# Altium integrated library AnalogDigital-Switches.IntLib: 5 symbols
Pins are listed as number, name and electrical type; pins without a type are passive.

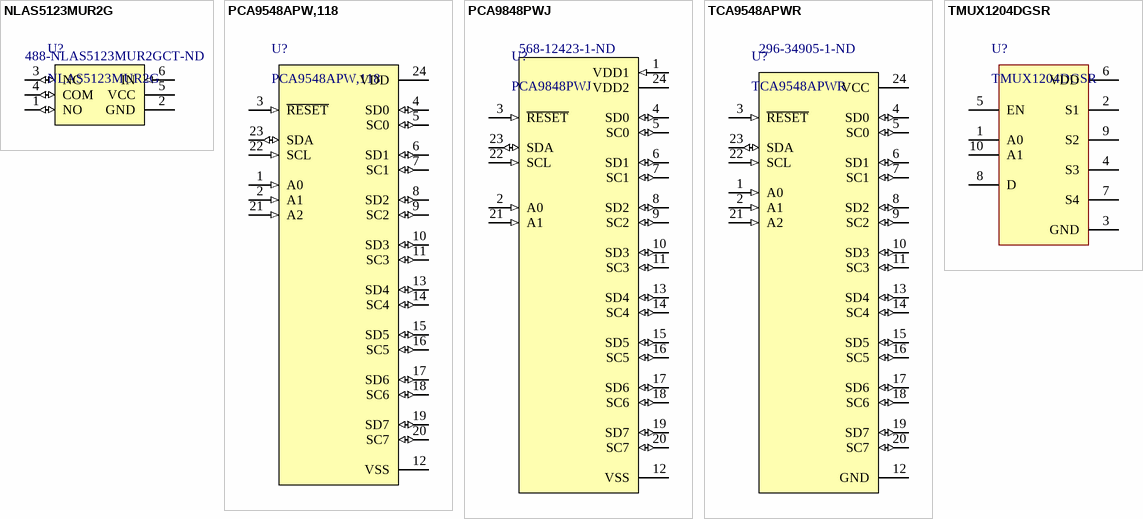
[diagram p0: symbols NLAS5123MUR2G to TMUX1204DGSR]

## NLAS5123MUR2G
designator U?  Supplier Part Number 1: 488-NLAS5123MUR2GCT-ND
NLAS5123MUR2G; Analogue Switch Single SPDT; 1.65 - 5.5 V; 6-Pin UDFN; Manufacturer: ON Semiconductor; Min Supply Voltage: 1.65V; Max Supply Voltage: 5.5V; Number of Inputs: 1; Number of Outputs: 2; On-State Resistance: 1R; Operating Supply Current: 500nA; Turn-On Delay Time: 20ns; Turn-Off Delay Time: 15ns; Supplier 1: Digi-Key; Manufacturer Part Number: NLAS5123MUR2G; RoHS: Yes; Category: Decoders and Multiplexers; Stock 1: 5956; Pricing 1: 1=1,40000, 10=1,25100, 25=1,18720, 100=0,97520, 250=0,91160, 500=0,80560, 1000=0,63600 (USD); Number of Pins: 6; Min Operating Temperature: -40°C; Max Operating Temperature: 85°C; Package Quantity: 1; Number of Channels: 1; Packaging: Tape and Reel; Max Supply Current: 500nA; Throw Configuration: SPDT; Supply Type: Single; Nominal Supply Current: 500nA; Series: -; Supply Current: 500nA; Length: 1.2mm; Width: 1mm; Height: 0.5mm; Radiation Hardening: No; Lead Free: Lead Free; Halogen Free: Halogen Free; RoHS Compliant: Yes; ComponentLink1URL: https://datasheet.ciiva.com/1682/nlas5123-d-1682371.pdf?src-supplier=Digi-Key; ComponentLink1Description: https://datasheet.ciiva.com/1682/nlas5123-d-1682371.pdf?src-supplier=Digi-Key; ComponentLink2URL: https://datasheet.ciiva.com/1682/nlas5123-d-1682372.pdf?src-supplier=Digi-Key; ComponentLink2Description: https://datasheet.ciiva.com/1682/nlas5123-d-1682372.pdf?src-supplier=Digi-Key
footprint SON40P100X80-6M (SON, 6-Leads, Body 1,20x1,00mm, Pitch 0,40mm, IPC Low Density)
pins: 1 NO (io), 2 GND (power), 3 NC (io), 4 COM (io), 5 VCC (power), 6 IN (in)

## PCA9548APW,118
designator U?
Multiplexer Switch ICs 8-CH I2C SWITCH W/RESET; Manufacturer: NXP; Manufacturer Part Number: PCA9548APW,118; ComponentLink1Description: Digikey; ComponentLink1URL: https://www.digikey.com/en/products/detail/nxp-usa-inc/PCA9548APW-118/1157063; LCSC: C21198
footprint TSOP65P640X110-24N (TSOP, 24-Leads, Body 7,80x4,40mm, Pitch 0,65mm, IPC Medium Density)
pins: 1 A0 (in), 2 A1 (in), 3 ~{RESET} (in), 4 SD0 (io), 5 SC0 (io), 6 SD1 (io), 7 SC1 (io), 8 SD2 (io), 9 SC2 (io), 10 SD3 (io), 11 SC3 (io), 12 VSS (power), 13 SD4 (io), 14 SC4 (io), 15 SD5 (io), 16 SC5 (io), 17 SD6 (io), 18 SC6 (io), 19 SD7 (io), 20 SC7 (io), 21 A2 (in), 22 SCL (in), 23 SDA (io), 24 VDD (power)

## PCA9848PWJ
designator U?  Supplier Part Number 1: 568-12423-1-ND
I2C Bus Switch 1-Element 1-IN Automotive 24-Pin TSSOP T/R; Manufacturer: NXP Semiconductors; Number of Circuits: 2; On-State Resistance: 24R; Supply Type: Dual; Independent Circuits: 1; Supplier 1: Digi-Key; Manufacturer Part Number: PCA9848PWJ; RoHS: Yes; Category: Integrated Circuits (ICs); Stock 1: 1133; Pricing 1: 1=3,01000, 10=2,76700 (USD); Mount: Surface Mount; Case/Package: TSSOP; Number of Pins: 24; Min Operating Temperature: -40°C; Max Operating Temperature: 85°C; Packaging: Cut Tape; REACH SVHC: No SVHC; RoHS Compliant: Yes; ComponentLink1URL: http://www.mouser.com/ds/2/302/PCA9848-1127670.pdf?src-supplier=Mouser; ComponentLink1Description: http://www.mouser.com/ds/2/302/PCA9848-1127670.pdf?src-supplier=Mouser; ComponentLink2URL: http://www.nxp.com/documents/data_sheet/PCA9848.pdf?src-supplier=Avnet; ComponentLink2Description: http://www.nxp.com/documents/data_sheet/PCA9848.pdf?src-supplier=Avnet; ComponentLink3URL: http://www.farnell.com/datasheets/2057141.pdf?src-supplier=Element14; ComponentLink3Description: http://www.farnell.com/datasheets/2057141.pdf?src-supplier=Element14
footprint SOP65P640X120-24N (IC I2C BUS SWITCH 1 X 8:1 24TSSOP)
pins: 1 VDD1 (in), 2 A0 (in), 3 ~{RESET} (in), 4 SD0 (io), 5 SC0 (io), 6 SD1 (io), 7 SC1 (io), 8 SD2 (io), 9 SC2 (io), 10 SD3 (io), 11 SC3 (io), 12 VSS (power), 13 SD4 (io), 14 SC4 (io), 15 SD5 (io), 16 SC5 (io), 17 SD6 (io), 18 SC6 (io), 19 SD7 (io), 20 SC7 (io), 21 A1 (in), 22 SCL (in), 23 SDA (io), 24 VDD2 (power)

## TCA9548APWR
designator U?  Supplier Part Number 1: 296-34905-1-ND
IC I2C SW 8CH W/RESET 24TSSOP; Manufacturer: Texas Instruments; Max Supply Voltage: 5.5V; Min Supply Voltage: 1.65V; On-State Resistance: 70R; Max Supply Current: 80uA; Supply Type: Single; Independent Circuits: 1; Supplier 1: Digi-Key; Manufacturer Part Number: TCA9548APWR; RoHS: Yes; Category: Decoders and Multiplexers; Pricing 1: 1=2,09000, 10=1,87600, 25=1,77040, 100=1,50820, 250=1,41616, 500=1,23914, 1000=1,16900 (USD); Mount: Surface Mount; Case/Package: TSSOP; Number of Pins: 24; Contact Plating: Gold; Min Operating Temperature: -40°C; Max Operating Temperature: 85°C; Packaging: Tape and Reel; Package Quantity: 1; Series: TCA; REACH SVHC: No SVHC; Lead Free: Lead Free; RoHS Compliant: Yes; ComponentLink1URL: https://datasheet.ciiva.com/6614/tca9548a-6614721.pdf?src-supplier=Digi-Key; ComponentLink1Description: https://datasheet.ciiva.com/6614/tca9548a-6614721.pdf?src-supplier=Digi-Key
footprint SOP65P640X120-24N (IC I2C BUS SWITCH 1 X 8:1 24TSSOP)
pins: 1 A0 (in), 2 A1 (in), 3 ~{RESET} (in), 4 SD0 (io), 5 SC0 (io), 6 SD1 (io), 7 SC1 (io), 8 SD2 (io), 9 SC2 (io), 10 SD3 (io), 11 SC3 (io), 12 GND (power), 13 SD4 (io), 14 SC4 (io), 15 SD5 (io), 16 SC5 (io), 17 SD6 (io), 18 SC6 (io), 19 SD7 (io), 20 SC7 (io), 21 A2 (in), 22 SCL (in), 23 SDA (io), 24 VCC (power)

## TMUX1204DGSR
designator U?
5-V, 4: 1, 1-channel, general-purpose analog multiplexer 10-VSSOP -40 to 125; Manufacturer: Texas Instruments; Manufacturer Lifecycle Status: ACTIVE; -3db Bandwidth: 125MHz; Max Junction Temperature (Tj): 150°C; Max Supply Voltage: 5.5V; Min Supply Voltage: 1.08V; Nominal Supply Current: 10nA; Number of Channels: 1; On-State Resistance: 5Ω; Value: 9Ω; Throw Configuration: SP4T; Supplier: DigiKey; Supplier Part Number: 296-TMUX1204DGSRCT-ND; Manufacturer Part Number: TMUX1204DGSR; RoHS: Compliant; Category: Decoders and Multiplexers; Stock: 17487; Pricing: 1=0,58, 10=0,41, 25=0,3672, 100=0,3199, 250=0,29744, 500=0,28386, 1000=0,27693 (USD); Ambient Temperature Range High: 125°C; Case/Package: VSSOP; Height: 1.07mm; Length: 3mm; Lifecycle Status: Production; Max Operating Temperature: 125°C; Min Operating Temperature: -40°C; Number of Circuits: 1; Pins: 10; Schedule B: 8542390000, 8542390000|8542390000|8542390000|8542390000|8542390000; Thickness: 1.02mm; Width: 3mm; ComponentLink1URL: https://octopart.com:443/opatz8j6/c1?t=LX23DACd-woayY2gHawiHY8__5oLhi9sv1L9125XOUkJaHJtEsbF39RTHFwH2IyMRhxqUhwVD2u85DX7cofBFpvXiH7rJRXgMthk5NTFPavk2vYCZkdthBTzGq03x-pCKubUd29dneCqkLcfBUa5jEZOzrydTGGueV3Fk6xKsw9bxXVvapnowabhPWUvr7uiRN22UmzhBwAryUUtOJ7khbiNBzZH9l9m8bvEpLJm-dymuj5Bbp9V26gT0_Z1kSqRtIHcnLqOStf5Bi-Yx2iiBK5PeC9pQ_aUhILVYXn8ELLApNIetG5TbG0qpt2aQu5tpllJt7nX1lf7WCQliPUANWdfeTV-kKXv3KpLxF7QKD7mHGbZrQ0ZeVcuGTY1VQfKdaV8wJC_rg&src-supplier=Texas+Instruments; ComponentLink1Description: https://octopart.com:443/opatz8j6/c1?t=LX23DACd-woayY2gHawiHY8__5oLhi9sv1L9125XOUkJaHJtEsbF39RTHFwH2IyMRhxqUhwVD2u85DX7cofBFpvXiH7rJRXgMthk5NTFPavk2vYCZkdthBTzGq03x-pCKubUd29dneCqkLcfBUa5jEZOzrydTGGueV3Fk6xKsw9bxXVvapnowabhPWUvr7uiRN22UmzhBwAryUUtOJ7khbiNBzZH9l9m8bvEpLJm-dymuj5Bbp9V26gT0_Z1kSqRtIHcnLqOStf5Bi-Yx2iiBK5PeC9pQ_aUhILVYXn8ELLApNIetG5TbG0qpt2aQu5tpllJt7nX1lf7WCQliPUANWdfeTV-kKXv3KpLxF7QKD7mHGbZrQ0ZeVcuGTY1VQfKdaV8wJC_rg&src-supplier=Texas+Instruments; ComponentLink2URL: https://datasheet.octopart.com:443/TMUX1204DGSR-Texas-Instruments-datasheet-165811999.pdf?src-supplier=SHENGYU+ELECTRONICS; ComponentLink2Description: https://datasheet.octopart.com:443/TMUX1204DGSR-Texas-Instruments-datasheet-165811999.pdf?src-supplier=SHENGYU+ELECTRONICS; ComponentLink3URL: http://sigma.octopart.com:80/reach_statement/Texas-Instruments-company-64.pdf?src-supplier=Compliance+Statements; ComponentLink3Description: http://sigma.octopart.com:80/reach_statement/Texas-Instruments-company-64.pdf?src-supplier=Compliance+Statements; ComponentLink4URL: http://sigma.octopart.com:80/conflict_mineral_statement/Texas-Instruments-company-63.pdf?src-supplier=Compliance+Statements; ComponentLink4Description: http://sigma.octopart.com:80/conflict_mineral_statement/Texas-Instruments-company-63.pdf?src-supplier=Compliance+Statements
footprint TSSOP50P490X110-10N (TSSOP, 10-Leads, Body 3,00x3,00mm, Pitch 0,50mm, IPC Medium Density)
pins: 1 A0, 2 S1, 3 GND, 4 S3, 5 EN, 6 VDD, 7 S4, 8 D, 9 S2, 10 A1